# Altium footprint library QA.PcbLib: 1 footprints
Each footprint in its own frame and in the unit in brackets; x right, y up, seen from the top. Pads: shape width x height; smd on the part's side, far side on the other; paste and mask are expansions set on the pad; w line width, h text height; cw(c..) or ccw(c..) is an arc to the next point about the centre after c.
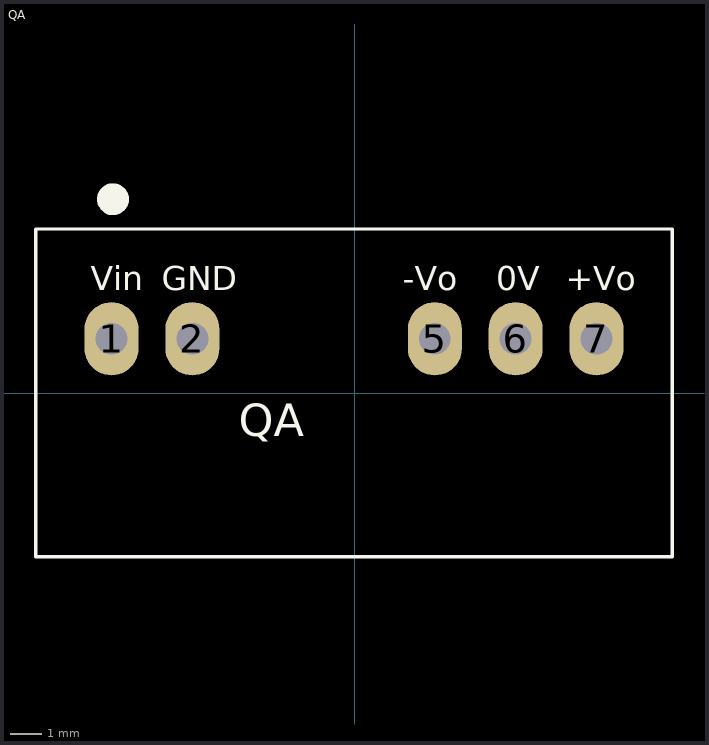
[diagram p0: the footprint, top view; thin cyan lines are the x and y axes]

## QA [mm]
pads (5):
  oval 1.7x2.3 hole 1: 1(-7.644,1.713) 2(-5.104,1.713) 5(2.516,1.713) 6(5.056,1.713) 7(7.596,1.713)
Top Overlay:
  circle w0.5: c-7.6,6.1 r0.25
  lines w0.1: -10.024,-5.137 -10.024,5.163 9.976,5.163 9.976,-5.137 -10.024,-5.137
  text "QA" at -3.65,-1.35 h1.02
  text "-Vo" at 1.5,3.231 h0.76
  text "0V" at 4.45,3.231 h0.76
  text "Vin" at -8.3,3.231 h0.76
  text "GND" at -6.074,3.231 h0.76
  text "+Vo" at 6.63,3.231 h0.76